# EAGLE library part TMP006AIYZFR (library MAÑE)
Infrared Thermopile Sensor,DSBGA-8
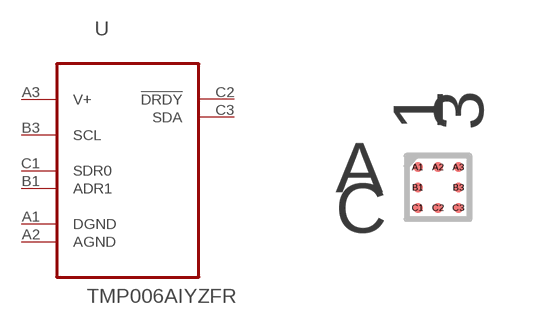
[diagram p19: symbol with the pads of BGA8C50P3X3_156X156X63; footprint BGA8C50P3X3_156X156X63]

Designator prefix U

## TMP006AIYZFR (MPN: TMP006AIYZFR; OC_FARNELL: 1909481; OC_NEWARK: 52T8758; PACKAGE: DSBGA-8; SUPPLIER: TEXAS INSTRUMENTS)  [BGA8C50P3X3_156X156X63]
A1  DGND  pas
A2  AGND  pas
A3  V+  pwr
B1  ADR1  in
B3  SCL  in
C1  SDR0  pas
C2  !DRDY  pas
C3  SDA

## Footprint BGA8C50P3X3_156X156X63 (pad centres in mm)
smd 0.254 x 0.254: A1 -0.508,0.508; A2 0,0.508; A3 0.508,0.508; B1 -0.508,0; B3 0.508,0; C1 -0.508,-0.508; C2 0,-0.508; C3 0.508,-0.508